# Altium footprint library UmbilicalConnectors.PcbLib: 38 footprints (part 2 of 3)
Each footprint in its own frame and in the unit in brackets; x right, y up, seen from the top. Pads: shape width x height; smd on the part's side, far side on the other; paste and mask are expansions set on the pad; w line width, h text height; cw(c..) or ccw(c..) is an arc to the next point about the centre after c.
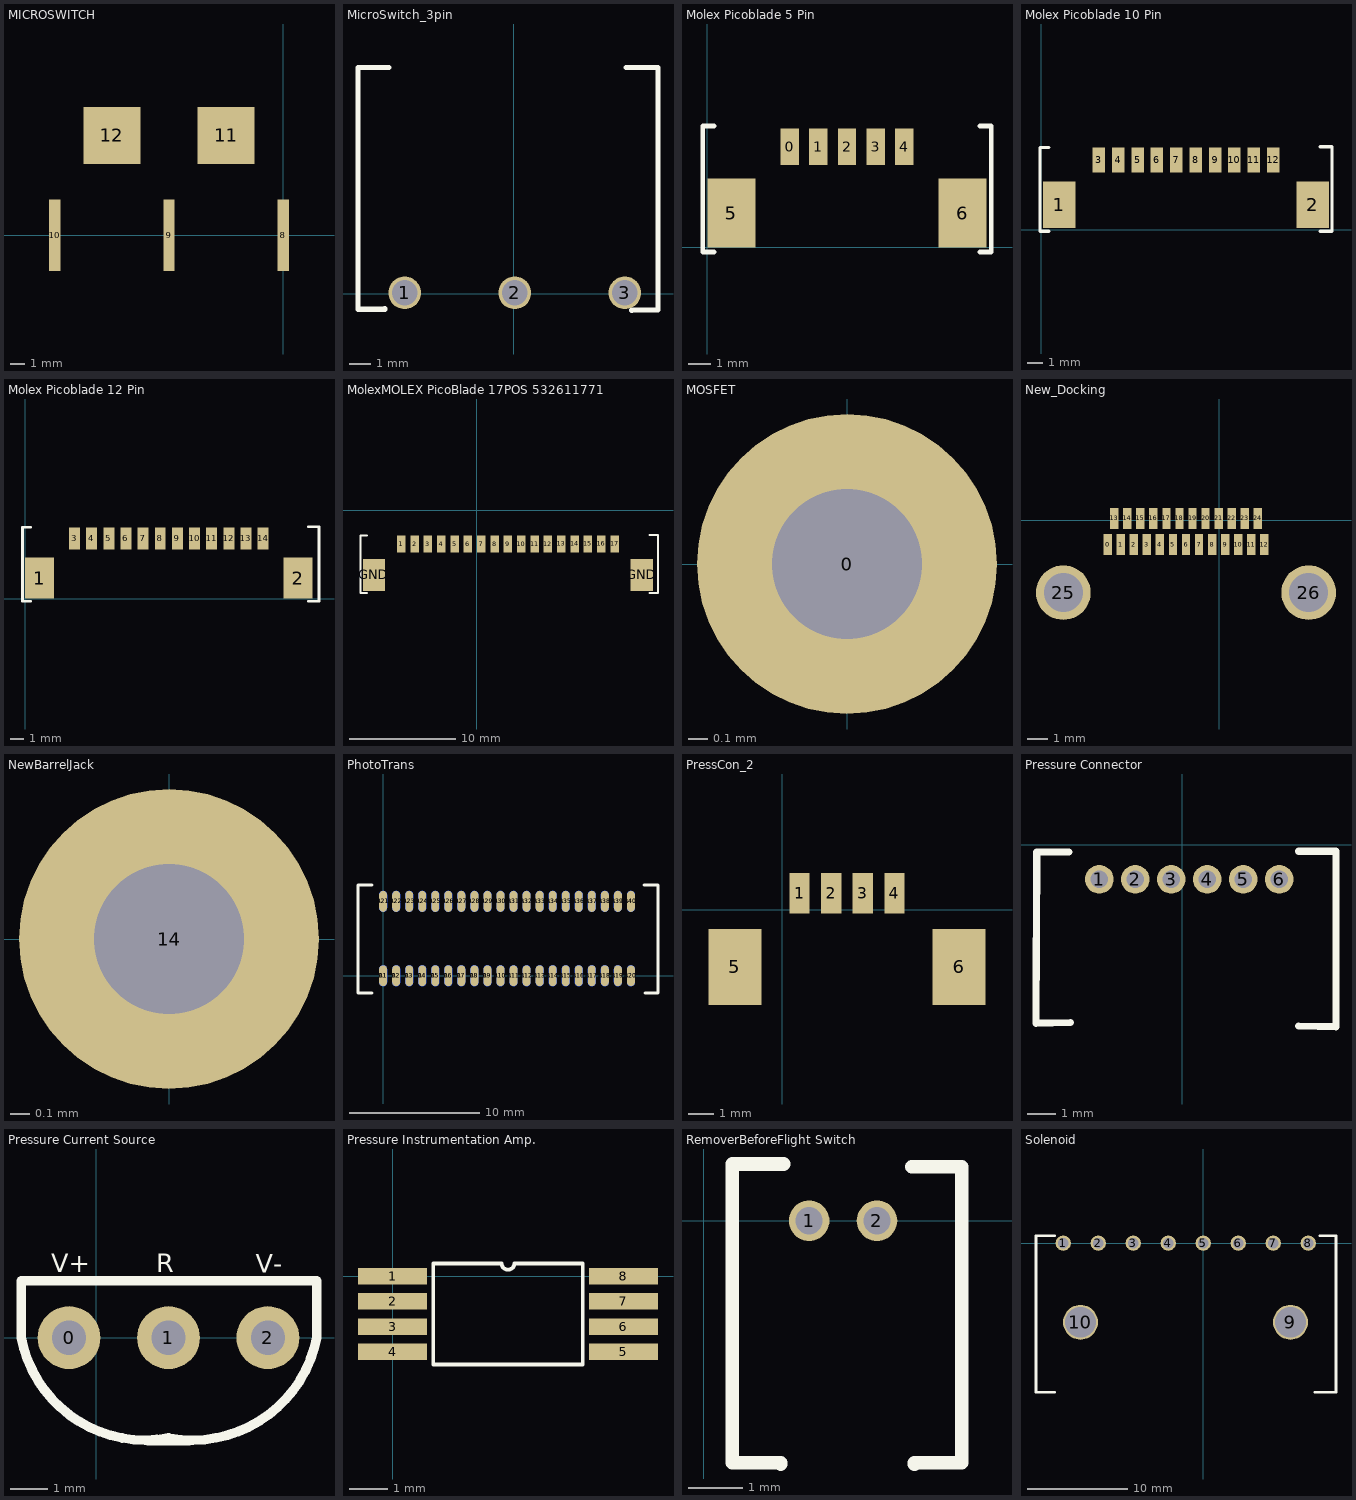
[diagram p1: the footprints below, top view; thin cyan lines are the x and y axes]

## MICROSWITCH [mm] "Arbitrary microswitch footprint placeholder. Must be updated with choice of microswitch"
pads (5):
  rect 0.8x5 smd: 8(0,0) 9(-8,0) 10(-16,0)
  rect 4x4 smd: 11(-4,7) 12(-12,7)

## MicroSwitch_3pin [mm] "Omron Electronics Inc-EMC Div D2FS-FL-N-A1"
pads (3):
  round 1.524 hole 1.2: 1(-5.08,0.05) 2(0.05,0.05) 3(5.18,0.05)
Top Overlay:
  lines w0.254: -6,-0.7 -6,-0.725 -7.255,-0.725 -7.255,10.55 -5.825,10.55 ; 5.25,10.55 6.725,10.55 6.725,-0.75 5.5,-0.75 5.5,-0.775
3D body "D2FS_FL_N_A1.step": height 0, standoff -8.9, extent -7.255,-0.75 6.725,10.55

## Molex Picoblade 5 Pin [mm] "Molex Picoblade Header, SMT, Right Angle  53261-0571"
height 3.4
pads (7):
  rect 0.8x1.6 smd: 0(3.6,4.4) 1(4.85,4.4) 2(6.1,4.4) 3(7.35,4.4) 4(8.6,4.4)
  rect 2.1x3 smd: 5(1.05,1.5) 6(11.15,1.5)
Top Overlay:
  lines w0.2: 0.3,-0.2 -0.2,-0.2 -0.2,5.3 0.3,5.3 ; 11.9,-0.2 12.4,-0.2 12.4,5.3 11.9,5.3
3D body "532610571.stp": height 3.4, standoff 0, extent 0.4,0 11.8,5.2

## Molex Picoblade 10 Pin [mm]
pads (12):
  rect 2.1x3 smd: 1(1.15,1.6) 2(17.5,1.6)
  rect 0.8x1.6 smd: 3(3.7,4.5) 4(4.95,4.5) 5(6.2,4.5) 6(7.45,4.5) 7(8.7,4.5) 8(9.95,4.5) 9(11.2,4.5) 10(12.45,4.5) 11(13.7,4.5) 12(14.95,4.5)
Top Overlay:
  lines w0.2: 0.5,-0.1 -0.1,-0.1 -0.1,5.3 0.5,5.3 ; 17.975,-0.1 18.75,-0.1 18.75,5.35 17.975,5.35
3D body "532611071.stp": height 3.4, standoff 0, extent 0.5,-0.2 18.15,5

## Molex Picoblade 12 Pin [mm] "Molex Picoblade Header, SMT, Right Angle"
height 3.4
pads (14):
  rect 2.1x3 smd: 1(1.05,1.5) 2(19.9,1.5)
  rect 0.8x1.6 smd: 3(3.6,4.4) 4(4.85,4.4) 5(6.1,4.4) 6(7.35,4.4) 7(8.6,4.4) 8(9.85,4.4) 9(11.1,4.4) 10(12.35,4.4) 11(13.6,4.4) 12(14.85,4.4) 13(16.1,4.4) 14(17.35,4.4)
Top Overlay:
  lines w0.2: 0.4,-0.2 -0.2,-0.2 -0.2,5.2 0.4,5.2 ; 20.65,-0.2 21.425,-0.2 21.425,5.25 20.65,5.25
3D body "532611271.stp": height 3.4, standoff 0, extent 0.4,-0.05 20.55,5.15

## MolexMOLEX PicoBlade 17POS 532611771 [mm]
height 3.4
pads (19):
  rect 0.8x1.6 smd: 1(-7.075,-3.15) 2(-5.825,-3.15) 3(-4.575,-3.15) 4(-3.325,-3.15) 5(-2.075,-3.15) 6(-0.825,-3.15) 7(0.425,-3.15) 8(1.675,-3.15) 9(2.925,-3.15) 10(4.175,-3.15) 11(5.425,-3.15) 12(6.675,-3.15) 13(7.925,-3.15) 14(9.175,-3.15) 15(10.425,-3.15) 16(11.675,-3.15) 17(12.925,-3.15)
  rect 2.1x3 smd: GND(-9.625,-6.05) GND(15.475,-6.05)
Top Overlay:
  lines w0.2: -10.275,-7.75 -10.875,-7.75 -10.875,-2.35 -10.275,-2.35 ; 16.225,-7.75 17,-7.75 17,-2.3 16.225,-2.3
3D body "532611271.stp": height 3.4, standoff 0, extent -10.275,-7.6 9.875,-2.4

## MOSFET [mil]
pads (1):
  round 60 hole 30: 0(0,0)

## New_Docking [mm] "NK-2D2-025-228-0000"
pads (27):
  rect 0.406x1.016 all layers, no hole mask+0.076: 0(-5.423,-1.195) 1(-4.788,-1.195) 2(-4.153,-1.195) 3(-3.518,-1.195) 4(-2.883,-1.195) 5(-2.248,-1.195) 6(-1.613,-1.195) 7(-0.978,-1.195) 8(-0.343,-1.195) 9(0.292,-1.195) 10(0.927,-1.195) 11(1.562,-1.195) 12(2.197,-1.195) 13(-5.105,0.075) 14(-4.47,0.075) 15(-3.835,0.075) 16(-3.2,0.075) 17(-2.565,0.075) 18(-1.93,0.075) 19(-1.295,0.075) 20(-0.66,0.075) 21(-0.025,0.075) 22(0.61,0.075) 23(1.245,0.075) 24(1.88,0.075)
  round 2.662 hole 1.9 mask+0.076: 25(-7.582,-3.532) 26(4.356,-3.532)

## NewBarrelJack [mil] "KLDX-0202-B"
pads (1):
  round 60 hole 30: 14(0,0)

## PhotoTrans [mm] "501571-4007"
pads (80):
  oval 0.6x1.6 smd: A1(0,0) A2(1,0) A3(2,0) A4(3,0) A5(4,0) A6(5,0) A7(6,0) A8(7,0) A9(8,0) A10(9,0) A11(10,0) A12(11,0) A13(12,0) A14(13,0) A15(14,0) A16(15,0) A17(16,0) A18(17,0) A19(18,0) A20(19,0) A21(0,5.7) A22(1,5.7) A23(2,5.7) A24(3,5.7) A25(4,5.7) A26(5,5.7) A27(6,5.7) A28(7,5.7) A29(8,5.7) A30(9,5.7) A31(10,5.7) A32(11,5.7) A33(12,5.7) A34(13,5.7) A35(14,5.7) A36(15,5.7) A37(16,5.7) A38(17,5.7) A39(18,5.7) A40(19,5.7)
  oval 0.6x1.6 smd far side: B1(0,0) B2(1,0) B3(2,0) B4(3,0) B5(4,0) B6(5,0) B7(6,0) B8(7,0) B9(8,0) B10(9,0) B11(10,0) B12(11,0) B13(12,0) B14(13,0) B15(14,0) B16(15,0) B17(16,0) B18(17,0) B19(18,0) B20(19,0) B21(0,5.7) B22(1,5.7) B23(2,5.7) B24(3,5.7) B25(4,5.7) B26(5,5.7) B27(6,5.7) B28(7,5.7) B29(8,5.7) B30(9,5.7) B31(10,5.7) B32(11,5.7) B33(12,5.7) B34(13,5.7) B35(14,5.7) B36(15,5.7) B37(16,5.7) B38(17,5.7) B39(18,5.7) B40(19,5.7)
Top Overlay:
  lines w0.254: -0.875,-1.32 -1.925,-1.32 -1.925,6.95 -0.875,6.95 ; 20.025,6.95 21.075,6.95 21.075,-1.32 20.075,-1.32
3D body "5015714007.stp": height 2.95, standoff -3.55, extent -1.85,-1.355 21.15,6.895

## PressCon_2 [mm] "Molex Picoblade 4 pin (for the second pressure conn) Part # 53261-0471"
pads (6):
  rect 0.8x1.6 all layers, no hole: 1(0.675,0.65) 2(1.925,0.65) 3(3.175,0.65) 4(4.425,0.65)
  rect 2.1x3 all layers, no hole: 5(-1.875,-2.25) 6(6.975,-2.25)
3D body "532610471.stp": height 1.7, standoff -1.7, extent -2.55,-3.825 7.6,1.375

## Pressure Connector [mm] "53048-0610"
pads (6):
  round 1 hole 0.6 mask+0.076: 1(-2.875,-1.2) 2(-1.625,-1.2) 3(-0.375,-1.2) 4(0.875,-1.2) 5(2.125,-1.2) 6(3.375,-1.2)
Top Overlay:
  lines w0.254: -3.925,-0.25 -5.05,-0.25 -5.075,-6.2 -3.875,-6.175 ; 4.05,-6.3 5.35,-6.325 5.35,-0.225 4.05,-0.225
3D body "530480610.stp": height 1.75, standoff -4.05, extent -4.45,-6.075 4.8,-0.575

## Pressure Current Source [mm] "LM234Z-3/NOPB (TO-92 package)"
pads (3):
  round 1.676 hole 0.914 mask+0.076: 0(-0.725,0) 1(1.925,0) 2(4.575,0)
Top Overlay:
  lines w0.254: 1.375,-2.75 2.475,-2.75 ; 1.925,-2.67 cw(c1.298,0.628) -2,0 -2,1.52 5.875,1.52 5.875,0 cw(c2.565,0.64) 1.961,-2.677
  text "V-" at 4.25,1.725 h0.5
  text "R" at 1.6,1.75 h0.5
  text "V+" at -1.2,1.75 h0.5

## Pressure Instrumentation Amp. [mm] "INA826AIDGKR"
pads (8):
  rect 1.78x0.42 smd: 1(0,0) 2(0,-0.65) 3(0,-1.3) 4(0,-1.95) 5(5.94,-1.95) 6(5.94,-1.3) 7(5.94,-0.65) 8(5.94,0)
Top Overlay:
  lines w0.1: 1.045,-2.275 1.045,0.325 2.808,0.325 ccw(c2.97,0.325) 3.132,0.325 4.895,0.325 4.895,-2.275 1.045,-2.275

## RemoverBeforeFlight Switch [mm] "Molex Picoblade Part Number: 53048-0210"
pads (2):
  round 0.75 hole 0.5: 1(1.95,0) 2(3.205,0)
Top Overlay:
  lines w0.254: 1.425,-4.5 1.425,-4.475 0.525,-4.475 0.525,1.05 1.475,1.05 ; 3.85,1 4.775,1 4.775,-4.475 3.9,-4.475 3.9,-4.5
3D body "530480210.stp": height 4.05, standoff -1.75, extent 0.525,-4.475 4.775,1.025

## Solenoid [mm] "New Solenoid 8 Pin. Part Number: 172310-1108"
pads (10):
  round 1.524 hole 1.06: 1(-14,0) 2(-10.5,0) 3(-7,0) 4(-3.5,0) 5(0,0) 6(3.5,0) 7(7,0) 8(10.5,0)
  round 3.5 hole 3.09: 9(8.725,-7.91) 10(-12.275,-7.91)
Top Overlay:
  lines w0.254: -14.875,-14.889 -16.725,-14.889 -16.725,0.75 -14.875,0.75 ; 11.175,-14.925 13.275,-14.925 13.275,0.725 ; 11.65,0.739 13.275,0.739
3D body "1723101108.stp": height 6.06, standoff -6.1, extent -16.725,-14.889 13.275,0.739